# Altium schematic symbol library Diodes.SchLib: 1 symbol
Pins are listed as number, name and electrical type; pins without a type are passive.

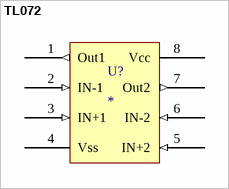
[diagram p0: symbol TL072]

## TL072
designator U?
LOW NOISE JFET INPUT OPERATIONAL / AMPLIFIERS; ComponentLink1Description: Datasheet; ComponentLink1URL: http://www.farnell.com/datasheets/2100162.pdf?_ga=2.131346700.2091339076.1550949916-1549779019.1547751625
pins: 1 Out1 (out) "Channel 1 Output", 2 IN-1 (in) "Channel 1 Inverting Input", 3 IN+1 (in) "Channel 1 Non-inverting Input", 4 Vss (power) "Ground", 5 IN+2 (in) "Channel 2 Non-inverting Input", 6 IN-2 (in) "Channel 2 Inverting Input", 7 Out2 (out) "Channel 2 Ouput", 8 Vcc (power) "Supply Voltage"